# Altium footprint library CON_SMA_EMERSON_EDGE.PcbLib: 1 footprints
Each footprint in its own frame and in the unit in brackets; x right, y up, seen from the top. Pads: shape width x height; smd on the part's side, far side on the other; paste and mask are expansions set on the pad; w line width, h text height; cw(c..) or ccw(c..) is an arc to the next point about the centre after c.
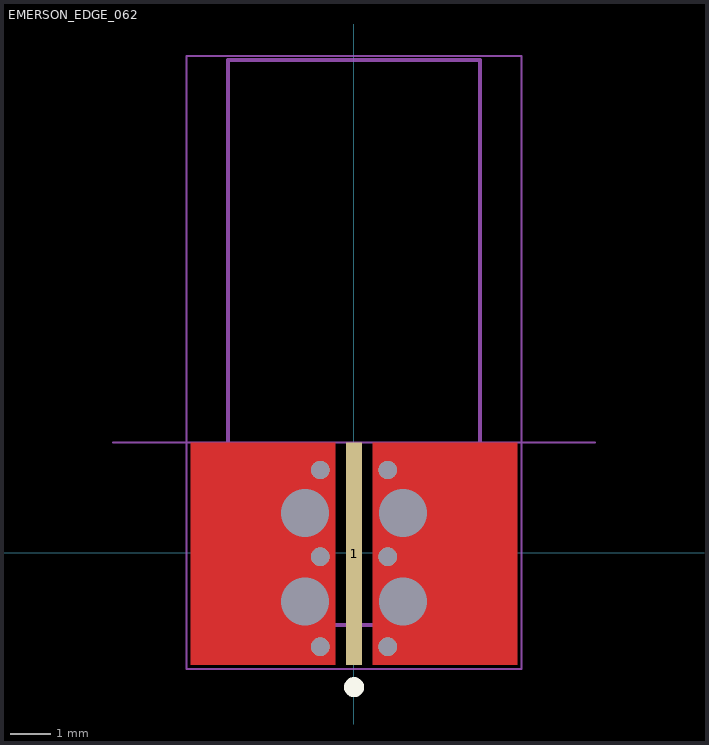
[diagram p0: the footprint, top view; thin cyan lines are the x and y axes]

## EMERSON_EDGE_062 [mil]
pads (5):
  rect 16x218 smd: 1(0.32,-1.22)
  round 0 hole 47: 2(-47.68,38.82) 3(48.32,38.82) 4(-47.68,-48.18) 5(48.32,-48.18)
via 33.31,-92.19 diameter 18 hole 18
via -32.69,-92.19 diameter 18 hole 18
via -32.69,80.81 diameter 18 hole 18
via 33.31,80.81 diameter 18 hole 18
via -32.69,-4.18 diameter 18 hole 18
via 33.31,-4.18 diameter 18 hole 18
Top Layer:
  region: -17.68,107.81 -159.69,107.82 -159.69,-110.18 -17.69,-110.19
  rectangle: 18.32,-110.24 160.31,107.78
Top Overlay:
  circle w9.84: c0.32,-131.89 r4.92
Mechanical 6:
  lines w1.97: -235.91,107.8 236.54,107.8
  text "16 mil reference trace for CPW line" at 20.32,-139.69 h19.68
  text "BOARD EDGE" at -354.69,115.31 h11.81
Mechanical 13:
  lines w3.94: 123.81,-71.18 -123.19,-71.18 -123.19,482.62 123.81,482.62 123.81,-67.68
Mechanical 15:
  lines w1.97: -163.62,-114.17 164.25,-114.17 164.25,486.57 -163.62,486.57 -163.62,-114.17
3D body: height 128.43, standoff -118.43, extent -123.1,-71.18 123.75,482.62